# EAGLE library part MODULE_LORA_E5 (library LORA-E5_Eagle_Library)
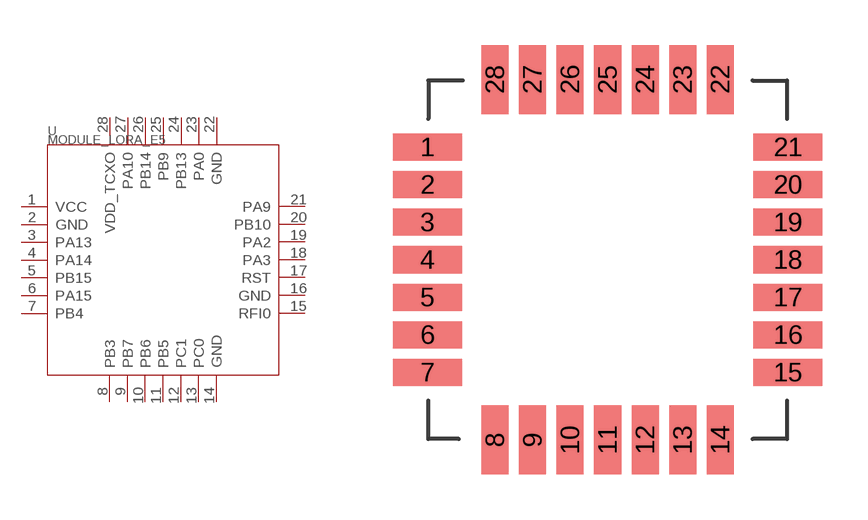
[diagram p0: symbol with the pads of MODULE28P-1.25-12X12X2.5MM; footprint MODULE28P-1.25-12X12X2.5MM]

Designator prefix U

## MODULE_LORA_E5  [MODULE28P-1.25-12X12X2.5MM]
1  VCC
2  GND
3  PA13
4  PA14
5  PB15
6  PA15
7  PB4
8  PB3
9  PB7
10  PB6
11  PB5
12  PC1
13  PC0
14  GND
15  RFI0
16  GND
17  RST
18  PA3
19  PA2
20  PB10
21  PA9
22  GND
23  PA0
24  PB13
25  PB9
26  PB14
27  PA10
28  VDD_TCXO

## Footprint MODULE28P-1.25-12X12X2.5MM (pad centres in mm)
smd 2.3 x 0.9: 1 -6,3.75; 2 -6,2.5; 3 -6,1.25; 4 -6,0; 5 -6,-1.25; 6 -6,-2.5; 7 -6,-3.75; 15 6,-3.75; 16 6,-2.5; 17 6,-1.25; 18 6,0; 19 6,1.25; 20 6,2.5; 21 6,3.75
smd 0.9 x 2.3: 8 -3.75,-6; 9 -2.5,-6; 10 -1.25,-6; 11 0,-6; 12 1.25,-6; 13 2.5,-6; 14 3.75,-6; 22 3.75,6; 23 2.5,6; 24 1.25,6; 25 0,6; 26 -1.25,6; 27 -2.5,6; 28 -3.75,6